# Altium schematic symbol library MID400.Schlib: 1 symbol
Pins are listed as number, name and electrical type; pins without a type are passive.

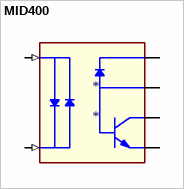
[diagram p0: symbol MID400]

## MID400
designator *
pins: 1 VIN1 (in), 3 VIN2 (in), 5 E (oe), 6 C (oc), 7 AUX, 8 Vcc (power)